# Altium footprint library 1725698.PcbLib: 1 footprints
Each footprint in its own frame and in the unit in brackets; x right, y up, seen from the top. Pads: shape width x height; smd on the part's side, far side on the other; paste and mask are expansions set on the pad; w line width, h text height; cw(c..) or ccw(c..) is an arc to the next point about the centre after c.
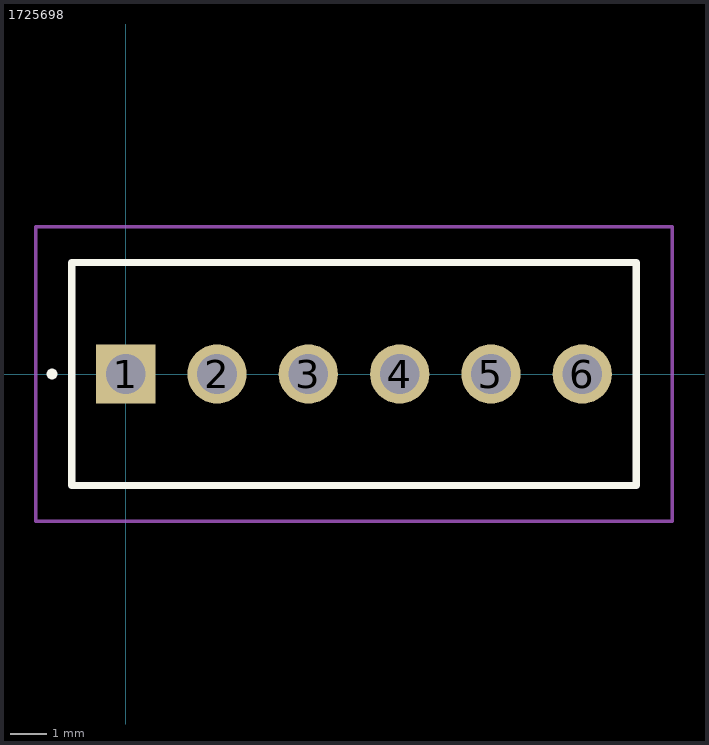
[diagram p0: the footprint, top view; thin cyan lines are the x and y axes]

## 1725698 [mm]
pads (6):
  rect 1.65x1.65 hole 1.1: 1(0,0)
  round 1.65 hole 1.1: 2(2.54,0) 3(5.08,0) 4(7.62,0) 5(10.16,0) 6(12.7,0)
Top Overlay:
  lines w0.2: -2.1,0 -2.1,0 ; -2.1,0 ccw(c-2.05,0) -2,0 ; -2.1,0 cw(c-2.05,0) -2,0 ; -2.1,0 -2,0 ; -2,0 -2,0 ; -1.5,-3.1 14.2,-3.1 14.2,3.1 -1.5,3.1 -1.5,-3.1
Mechanical 15:
  lines w0.1: -1.5,-3.1 14.2,-3.1 14.2,3.1 -1.5,3.1 -1.5,-3.1
Mechanical 20:
  lines w0.1: -2.5,-4.1 15.2,-4.1 15.2,4.1 -2.5,4.1 -2.5,-4.1